# Altium schematic symbol library DPB09.SchLib: 1 symbol
Pins are listed as number, name and electrical type; pins without a type are passive.

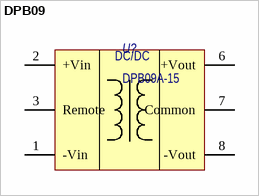
[diagram p0: symbol DPB09]

## DPB09
designator U?, comment DPB09A-15
9W SIP Package DC-DC Regulated Converter; Потребление, Вт: 9,0; Назначение: 9W SIP Package DC-DC Regulated Converter; Наименование: DPB09A-15; ComponentLink1Description: DataSheet; ComponentLink1URL: https://static.chipdip.ru/lib/677/DOC011677263.pdf
footprint SIP-8
pins: 1 -Vin, 2 +Vin, 3 Remote, 6 +Vout, 7 Common, 8 -Vout
text: DC/DC